# Altium footprint library gates library.PcbLib: 1 footprints
Each footprint in its own frame and in the unit in brackets; x right, y up, seen from the top. Pads: shape width x height; smd on the part's side, far side on the other; paste and mask are expansions set on the pad; w line width, h text height; cw(c..) or ccw(c..) is an arc to the next point about the centre after c.
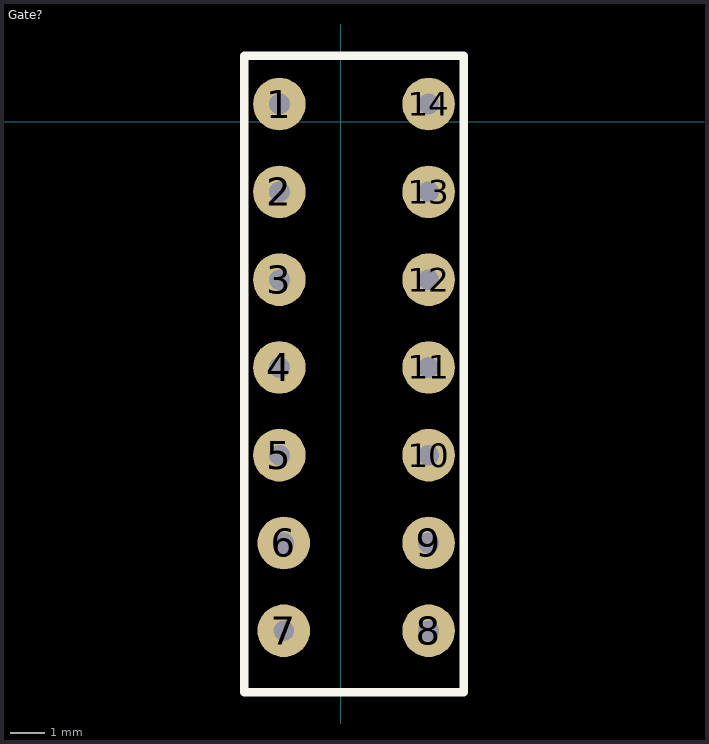
[diagram p0: the footprint, top view; thin cyan lines are the x and y axes]

## Gate? [mil]
pads (14):
  round 60 hole 23.62: 1(-70,20) 2(-70,-80) 3(-70,-180) 4(-70,-280) 5(-70,-380) 6(-65,-480) 7(-65,-580) 8(100,-580) 9(100,-480) 10(100,-380) 11(100,-280) 12(100,-180) 13(100,-80) 14(100,20)
Top Overlay:
  lines w10: -110,-650 140,-650 140,75 -110,75 -110,-650